# Altium schematic symbol library CAP 5.6pF 50V.Schlib: 1 symbol
Pins are listed as number, name and electrical type; pins without a type are passive.

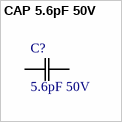
[diagram p0: symbol CAP 5.6pF 50V]

## CAP 5.6pF 50V
designator C?, comment 5.6pF 50V
CAP CER 5.6PF 50V C0G/NP0 0805; Tolerance: 5%; Package: 0805; Value: 5.6pF; Rating: 50V; Temperature Coefficient: C0G/NP0; Operating Temperature: -55°C ~ 125°C
footprint 0805
footprint 0603 (Chip Resistor, 2-Leads, Body 1.60x0.80mm, IPC High Density)
pins: 1 C1, 2 C2